# Altium integrated library BMS_Slave V0.1.IntLib: 30 symbols
Pins are listed as number, name and electrical type; pins without a type are passive.

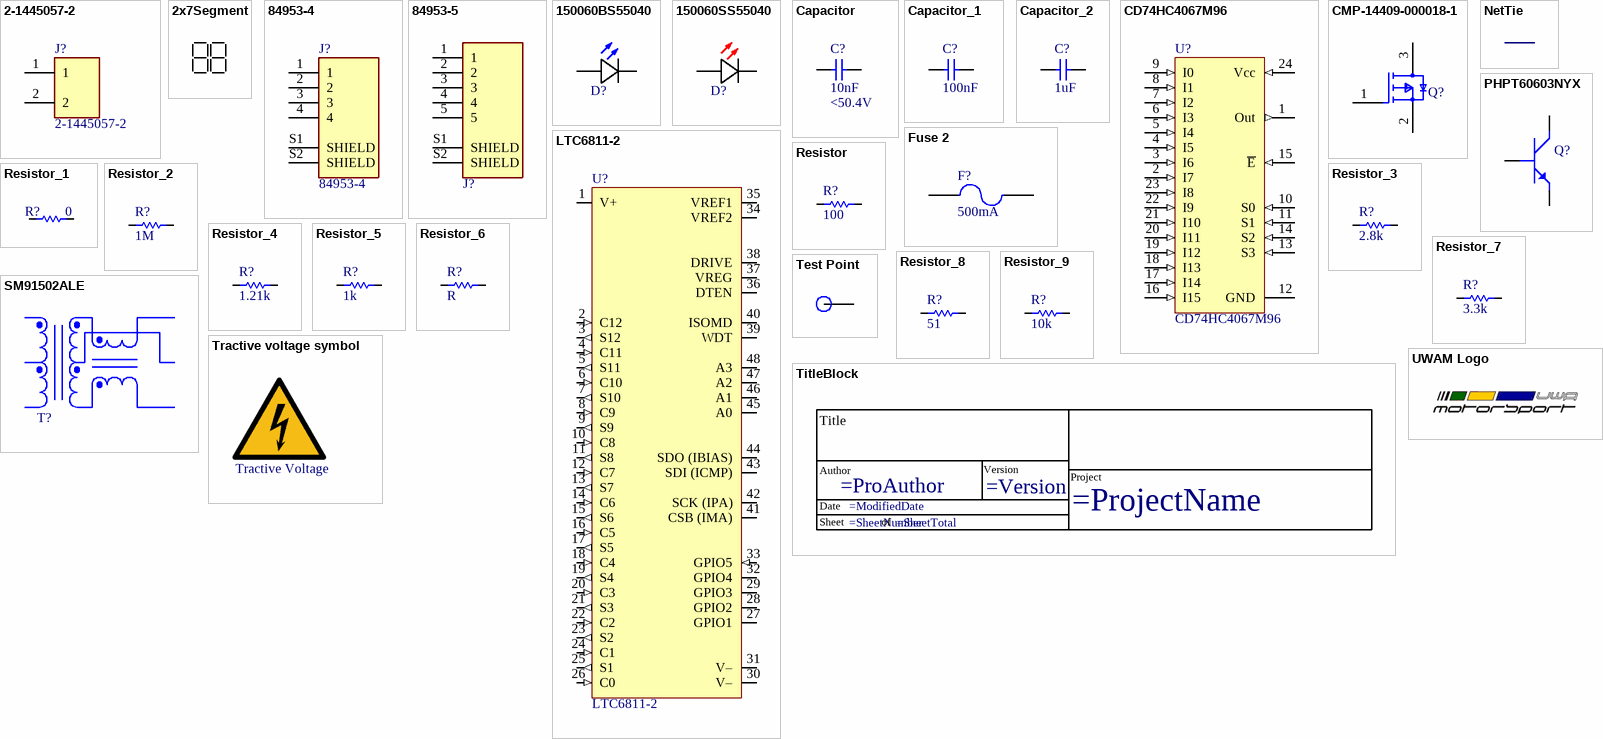
[diagram p0: symbols 2-1445057-2 to UWAM Logo]

## 2-1445057-2
designator J?
CONN HEADER 3MM 2POS R/A TIN SMD; MF: {'manufacturer': u'TE Connectivity'}; Package: None; MP: 2-1445057-2; Availability: Unavailable; Price: None; Value: *
footprint TE_2-1445057-2
pins: 1, 2

## 2x7Segment
designator S?  (value not drawn)  (no BOM)
footprint 2x7Segment

## 84953-4
designator J?
FPC Connectors, Flex-to-Board, 4 Position, .039 in [1 mm] Centerline, Zero Insertion Force (ZIF), Right Angle, Surface Mount; MF: {'manufacturer': u'TE Connectivity'}; Value: *; Availability: Unavailable; Package: None; MP: 84953-4; Price: None
footprint 84953-4 (FPC Connectors, Flex-to-Board, 4 Position, Right Angle, Surface Mount)
pins: 1, 2, 3, 4, S1 SHIELD, S2 SHIELD

## 84953-5
designator J?  (value not drawn)
FPC Connectors, Flex-to-Board, 5 Position, .039 in [1 mm] Centerline, Zero Insertion Force (ZIF), Right Angle, Surface Mount.
footprint 84953-5 (FPC Connectors, Flex-to-Board, 5 Position, Right Angle, Surface Mount)
pins: 1, 2, 3, 4, 5, S1 SHIELD, S2 SHIELD

## 150060BS55040
designator D?  (value not drawn)
LED BLUE DIFFUSED 0603 SMD; Manufacturer: Wurth Electronics; Lens Style: Flat; Luminous Intensity: 80mcd; Forward Voltage: 3.2V; Test Current: 20mA; Viewing Angle: 140°; Dominant Wavelength: 470nm; Lens Size: 0.8mm; Supplier 1: Mouser; Manufacturer Part Number: 150060BS55040; RoHS: No; Pricing 1: 1=0.18000, 10=0.16800, 50=0.16800, 100=0.15200, 1000=0.12100, 10000=0.10600 (USD); Mount: Surface Mount; Case/Package: 0603; Color: Blue; Packaging: Tape and Reel; Lens Transparency: Diffused; Length: 1.6mm; Width: 0.8mm; Height: 0.5mm; RoHS Compliant: No; ComponentLink1URL: http://www.farnell.com/datasheets/2621640.pdf?src-supplier=Farnell; ComponentLink1Description: http://www.farnell.com/datasheets/2621640.pdf?src-supplier=Farnell; ComponentLink2URL: https://www.we-online.de/web/en/index.php/download/media/07_electronic_components/download_center_1/application_notes_berichte/ano002_leds___the_future_of_horticultural_lighting/ANO002b_EN_LEDs_The_Future_of_Horticultural_Lighting.pdf?src-supplier=Digi-Key; ComponentLink2Description: https://www.we-online.de/web/en/index.php/download/media/07_electronic_components/download_center_1/application_notes_berichte/ano002_leds___the_future_of_horticultural_lighting/ANO002b_EN_LEDs_The_Future_of_Horticultural_Lighting.pdf?src-supplier=Digi-Key; ComponentLink3URL: https://katalog.we-online.de/pbs/datasheet/150060BS55040.pdf?src-supplier=Digi-Key; ComponentLink3Description: https://katalog.we-online.de/pbs/datasheet/150060BS55040.pdf?src-supplier=Digi-Key; ComponentLink4URL: http://www.farnell.com/datasheets/2621640.pdf?src-supplier=Newark; ComponentLink4Description: http://www.farnell.com/datasheets/2621640.pdf?src-supplier=Newark; Supplier Part Number 1: 710-150060BS55040
footprint LED (0603)
pins: 1 K, 2 A

## 150060SS55040
designator D?  (value not drawn)
LED RED DIFFUSED 0603 SMD; Manufacturer: Wurth Electronics; Lens Style: Flat; Luminous Intensity: 70mcd; Forward Voltage: 2V; Test Current: 20mA; Viewing Angle: 140°; Dominant Wavelength: 630nm; Lens Size: 0.8mm; Supplier 1: Mouser; Manufacturer Part Number: 150060SS55040; RoHS: No; Category: LEDs; Stock 1: 17006; Pricing 1: 1=0.18000, 10=0.16800, 50=0.16800, 100=0.15200, 1000=0.12100, 10000=0.10600 (USD); Mount: Surface Mount; Case/Package: 0603; Color: Red; Case Code (Imperial): 0603; Case Code (Metric): 1608; Packaging: Tape and Reel; Lens Transparency: Diffused; Length: 1.6mm; Width: 0.8mm; Height: 0.5mm; RoHS Compliant: No; Supplier Part Number 1: 710-150060SS55040
footprint LED (0603)
pins: 1 K, 2 A

## Capacitor
designator C?, comment value 10nF  Voltage: <50.4V  (hidden comment: C)
Capacitor; ComponentLink1Description: New link; ComponentLink1URL: *
footprint 0402 (0402 Capacitor)
footprint C_0805 (0805 Capacitor)
footprint C_1210 (1210 Capacitor)
footprint C_0603 (0603 Capacitor)
pins: 1, 2

## Capacitor_1
designator C?, comment value 100nF  (hidden comment: C)
Capacitor; ComponentLink1Description: New link; ComponentLink1URL: *
footprint C_0805 (0805 Capacitor)
footprint C_1210 (1210 Capacitor)
footprint C_0603 (0603 Capacitor)
footprint C-0402 (0402 Capacitor)
pins: 1, 2

## Capacitor_2
designator C?, comment value 1uF  (hidden comment: C)
Capacitor; ComponentLink1Description: New link; ComponentLink1URL: *
footprint C_0805 (0805 Capacitor)
footprint C_1210 (1210 Capacitor)
footprint C_0603 (0603 Capacitor)
footprint C-0402 (0402 Capacitor)
pins: 1, 2

## CD74HC4067M96
designator U?
High-Speed CMOS Logic / 16-Channel Analog Multiplexer/Demultiplexer
footprint SOIC127P1030X265-24N (SOIC, 24-Leads, Body 15.40x7.50mm, Pitch 1.27mm, IPC Medium Density)
pins: 1 Out (out), 2 I7 (in), 3 I6 (in), 4 I5 (in), 5 I4 (in), 6 I3 (in), 7 I2 (in), 8 I1 (in), 9 I0 (in), 10 S0 (in), 11 S1 (in), 12 GND (power), 13 S3 (in), 14 S2 (in), 15 ~{E} (in), 16 I15 (in), 17 I14 (in), 18 I13 (in), 19 I12 (in), 20 I11 (in), 21 I10 (in), 22 I9 (in), 23 I8 (in), 24 Vcc (in)

## CMP-14409-000018-1
designator Q?, comment NX2301P,215  (value not drawn)
MOSFET P-CH 20V 2A TO-236AB; Manufacturer: Nexperia; Manufacturer Part Number: NX2301P,215
footprint FP-SOT23-MFG
footprint FP-SOT23-IPC_B
footprint FP-SOT23-IPC_A
footprint FP-SOT23-IPC_C
pins: 1 G, 2 S, 3 D

## Fuse 2
designator F?, comment Current Rating: 500mA  (hidden comment: 0466.500NR)
LITTELFUSE - 0466.500NR - Fuse, Surface Mount, 500 mA, 466 Series, 63 VAC, 63 VDC, Very Fast Acting, 1206; Body Material: Thermoplastic; Voltage Rating (AC): 63V; Resistance: 350mR; DC Cold Resistance: 248mR; Fuse Type: Board Mount (Cartridge Style Excluded); Approvals: UL,CSA; Published: 8-Jun-2000; LatestRevisionDate: 17-Jul-2002; LatestRevisionNote: Re-released for DXP Platform.; PackageReference: PIN-W2/E2.8; Publisher: Altium Limited; PackageDescription: Thru-Hole; 2 Leads; Supplier 1: Mouser; Supplier Part Number 1: 576-0466.500NR; Manufacturer: Littelfuse; Manufacturer Part Number: 0466.500NR; RoHS: Yes; Category: Fuses; Stock 1: 36497; Pricing 1: 1=0.77000, 10=0.59200, 50=0.59200, 100=0.48900, 1000=0.41600, 10000=0.39000 (USD); Mount: Surface Mount; Case/Package: 1206; Number of Pins: 2; Case Code (Metric): 3216; Case Code (Imperial): 1206; Housing Material: Ceramic; Terminal Material: Copper; Min Operating Temperature: -55°C; Max Operating Temperature: 90°C; Packaging: Tape and Reel; Package Quantity: 5000; Voltage Rating (DC): 63V; Series: 466; Voltage Rating: 63V; Termination: SMD/SMT; Fuse Current: 500mA; Working Voltage: 63V; Length: 3.18mm; Width: 0.06inch; Height: 0.023inch; Depth: 1.52mm; Radiation Hardening: No; RoHS Compliant: Yes; REACH SVHC: Unknown; Lead Free: Lead Free; ComponentLink1URL: https://datasheet.ciiva.com/17081/0466-500nr-17081083.pdf?src-supplier=Allied+Electronics; ComponentLink1Description: https://datasheet.ciiva.com/17081/0466-500nr-17081083.pdf?src-supplier=Allied+Electronics; ComponentLink2URL: https://datasheet.ciiva.com/16327/littelfuse-fuse-466-16327478.pdf?src-supplier=Future+Electronics; ComponentLink2Description: https://datasheet.ciiva.com/16327/littelfuse-fuse-466-16327478.pdf?src-supplier=Future+Electronics; ComponentLink3URL: https://datasheet.ciiva.com/299/466seriesdrawing-299207.pdf?src-supplier=Digi-Key; ComponentLink3Description: https://datasheet.ciiva.com/299/466seriesdrawing-299207.pdf?src-supplier=Digi-Key; ComponentLink4URL: https://datasheet.ciiva.com/299/466seriesdrawing-299208.pdf?src-supplier=Digi-Key; ComponentLink4Description: https://datasheet.ciiva.com/299/466seriesdrawing-299208.pdf?src-supplier=Digi-Key; ComponentLink5URL: https://datasheet.ciiva.com/299/466seriesdrawing-299209.pdf?src-supplier=Digi-Key; ComponentLink5Description: https://datasheet.ciiva.com/299/466seriesdrawing-299209.pdf?src-supplier=Digi-Key; ComponentLink6URL: https://datasheet.ciiva.com/14102/ei466-dat-e-14102891.pdf?src-supplier=Distrelec; ComponentLink6Description: https://datasheet.ciiva.com/14102/ei466-dat-e-14102891.pdf?src-supplier=Distrelec; ComponentLink7URL: https://datasheet.ciiva.com/15186/getdatasheetpartid-57351-15186924.pdf?src-supplier=Verical; ComponentLink7Description: https://datasheet.ciiva.com/15186/getdatasheetpartid-57351-15186924.pdf?src-supplier=Verical
simulation model FUSE (Spice Subcircuit)
footprint 0466.500NR (500mA Fast Acting Fuse)
pins: 1, 2

## LTC6811-2
designator U?
12 Channel Multicell Battery Monitor with Addressable Interface
footprint SSOP50P780X200-48N (SSOP, 48-Leads, Body 12.80x5.30mm, Pitch 0.50mm, IPC Medium Density)
pins: 1 V+ (power), 2 C12 (in), 3 S12 (out), 4 C11 (in), 5 S11 (out), 6 C10 (in), 7 S10 (out), 8 C9 (in), 9 S9 (out), 10 C8 (in), 11 S8 (out), 12 C7 (in), 13 S7 (out), 14 C6 (in), 15 S6 (out), 16 C5 (in), 17 S5 (out), 18 C4 (in), 19 S4 (out), 20 C3 (in), 21 S3 (out), 22 C2 (in), 23 S2 (out), 24 C1 (in), 25 S1 (out), 26 C0 (in), 27 GPIO1 (io), 28 GPIO2 (io), 29 GPIO3 (io), 30 V– (power), 31 V– (power), 32 GPIO4 (io), 33 GPIO5 (in), 34 VREF2 (power), 35 VREF1 (power), 36 DTEN, 37 VREG (power), 38 DRIVE, 39 WDT, 40 ISOMD, 41 CSB (IMA) (io), 42 SCK (IPA) (io), 43 SDI (ICMP), 44 SDO (IBIAS), 45 A0, 46 A1, 47 A2, 48 A3

## NetTie
designator NT?  (value not drawn)  (net tie, no BOM)
footprint NetTie
pins: 1, 2

## PHPT60603NYX
designator Q?  (value not drawn)
60V, 3 A NPN high power bipolar transistor
footprint LFPAK56 (SOT669) (4 Lead SOT)
pins: 1 Emitter, 2 Emitter, 3 Emitter, 4 Base, 5 Collector

## Resistor
designator R?  value 100  (hidden comment: Resistor)
footprint R_0805 (0805 Resistor)
footprint R_2512 (2512 Resistor)
footprint R_2010
footprint R_0402 (Chip Resistor, 2-Leads, Body 1.00x0.50mm, IPC Medium Density)
footprint R-0603 (0603 Chip Resistor)
pins: 1, 2

## Resistor_1
designator R?, comment value 0  (hidden comment: Resistor)
footprint R_0805 (0805 Resistor)
footprint R_2512 (2512 Resistor)
footprint R_2010
footprint R_0402 (Chip Resistor, 2-Leads, Body 1.00x0.50mm, IPC Medium Density)
footprint R-0603 (0603 Chip Resistor)
pins: 1, 2

## Resistor_2
designator R?, comment value 1M  (hidden comment: Resistor)
footprint R_0805 (0805 Resistor)
footprint R_2512 (2512 Resistor)
footprint R_2010
footprint R_0402 (Chip Resistor, 2-Leads, Body 1.00x0.50mm, IPC Medium Density)
footprint R-0603 (0603 Chip Resistor)
pins: 1, 2

## Resistor_3
designator R?, comment value 2.8k  (hidden comment: Resistor)
footprint R_0805 (0805 Resistor)
footprint R_2512 (2512 Resistor)
footprint R_2010
footprint R_0402 (Chip Resistor, 2-Leads, Body 1.00x0.50mm, IPC Medium Density)
footprint R-0603 (0603 Chip Resistor)
pins: 1, 2

## Resistor_4
designator R?, comment value 1.21k  (hidden comment: Resistor)
footprint R_0805 (0805 Resistor)
footprint R_2512 (2512 Resistor)
footprint R_2010
footprint R_0402 (Chip Resistor, 2-Leads, Body 1.00x0.50mm, IPC Medium Density)
footprint R-0603 (0603 Chip Resistor)
pins: 1, 2

## Resistor_5
designator R?, comment value 1k  (hidden comment: Resistor)
footprint R_0805 (0805 Resistor)
footprint R_2512 (2512 Resistor)
footprint R_2010
footprint R_0402 (Chip Resistor, 2-Leads, Body 1.00x0.50mm, IPC Medium Density)
footprint R-0603 (0603 Chip Resistor)
pins: 1, 2

## Resistor_6
designator R?, comment value R  (hidden comment: Resistor)
footprint R_0805 (0805 Resistor)
footprint R_2512 (2512 Resistor)
footprint R_2010
footprint R_0402 (Chip Resistor, 2-Leads, Body 1.00x0.50mm, IPC Medium Density)
footprint R-0603 (0603 Chip Resistor)
pins: 1, 2

## Resistor_7
designator R?, comment value 3.3k  (hidden comment: Resistor)
footprint R_0805 (0805 Resistor)
footprint R_2512 (2512 Resistor)
footprint R_2010
footprint R_0402 (Chip Resistor, 2-Leads, Body 1.00x0.50mm, IPC Medium Density)
footprint R-0603 (0603 Chip Resistor)
pins: 1, 2

## Resistor_8
designator R?, comment value 51  (hidden comment: Resistor)
footprint R_0805 (0805 Resistor)
footprint R_2512 (2512 Resistor)
footprint R_2010
footprint R_0402 (Chip Resistor, 2-Leads, Body 1.00x0.50mm, IPC Medium Density)
footprint R-0603 (0603 Chip Resistor)
pins: 1, 2

## Resistor_9
designator R?, comment value 10k  (hidden comment: Resistor)
footprint R_0805 (0805 Resistor)
footprint R_2512 (2512 Resistor)
footprint R_2010
footprint R_0402 (Chip Resistor, 2-Leads, Body 1.00x0.50mm, IPC Medium Density)
footprint R-0603 (0603 Chip Resistor)
pins: 1, 2

## SM91502ALE
designator T?  (value not drawn)
BMS XFORMER 1-CH 1000V AECQ +125; Manufacturer: Bourns; Inductance: 150uH; Turns Ratio: 1:1; Supplier 1: RSComponents; Manufacturer Part Number: SM91502ALE; RoHS: Yes; Category: Transformers; Stock 1: 1; Pricing 1: 800=2.35100 (USD); Mount: Surface Mount; Min Operating Temperature: -40°C; Max Operating Temperature: 125°C; Packaging: Cut Tape; ComponentLink1URL: https://www.bourns.com/docs/Product-Datasheets/SM91502AL.pdf?src-supplier=Digi-Key; ComponentLink1Description: https://www.bourns.com/docs/Product-Datasheets/SM91502AL.pdf?src-supplier=Digi-Key; Supplier Part Number 1: 1802382
footprint SM91502ALE
pins: 1, 2, 3, 4, 5, 6

## Test Point
designator TP?, comment 1.2mm Test point  (value not drawn)  (no BOM)
footprint Test Point (1.2mm Test point)
pins: 1

## TitleBlock
designator *?  (value not drawn)  (graphical)
text: Title; Author; Version; Project; Date; Sheet; of

## Tractive voltage symbol
designator aaa?  (value not drawn)  (no BOM)
footprint Tractive voltage
text: Tractive Voltage

## UWAM Logo
designator *?  (value not drawn)  (graphical)
footprint UWAM Logo